# Altium footprint library LaserPCB.PcbLib: 69 footprints (part 2 of 5)
Each footprint in its own frame and in the unit in brackets; x right, y up, seen from the top. Pads: shape width x height; smd on the part's side, far side on the other; paste and mask are expansions set on the pad; w line width, h text height; cw(c..) or ccw(c..) is an arc to the next point about the centre after c.
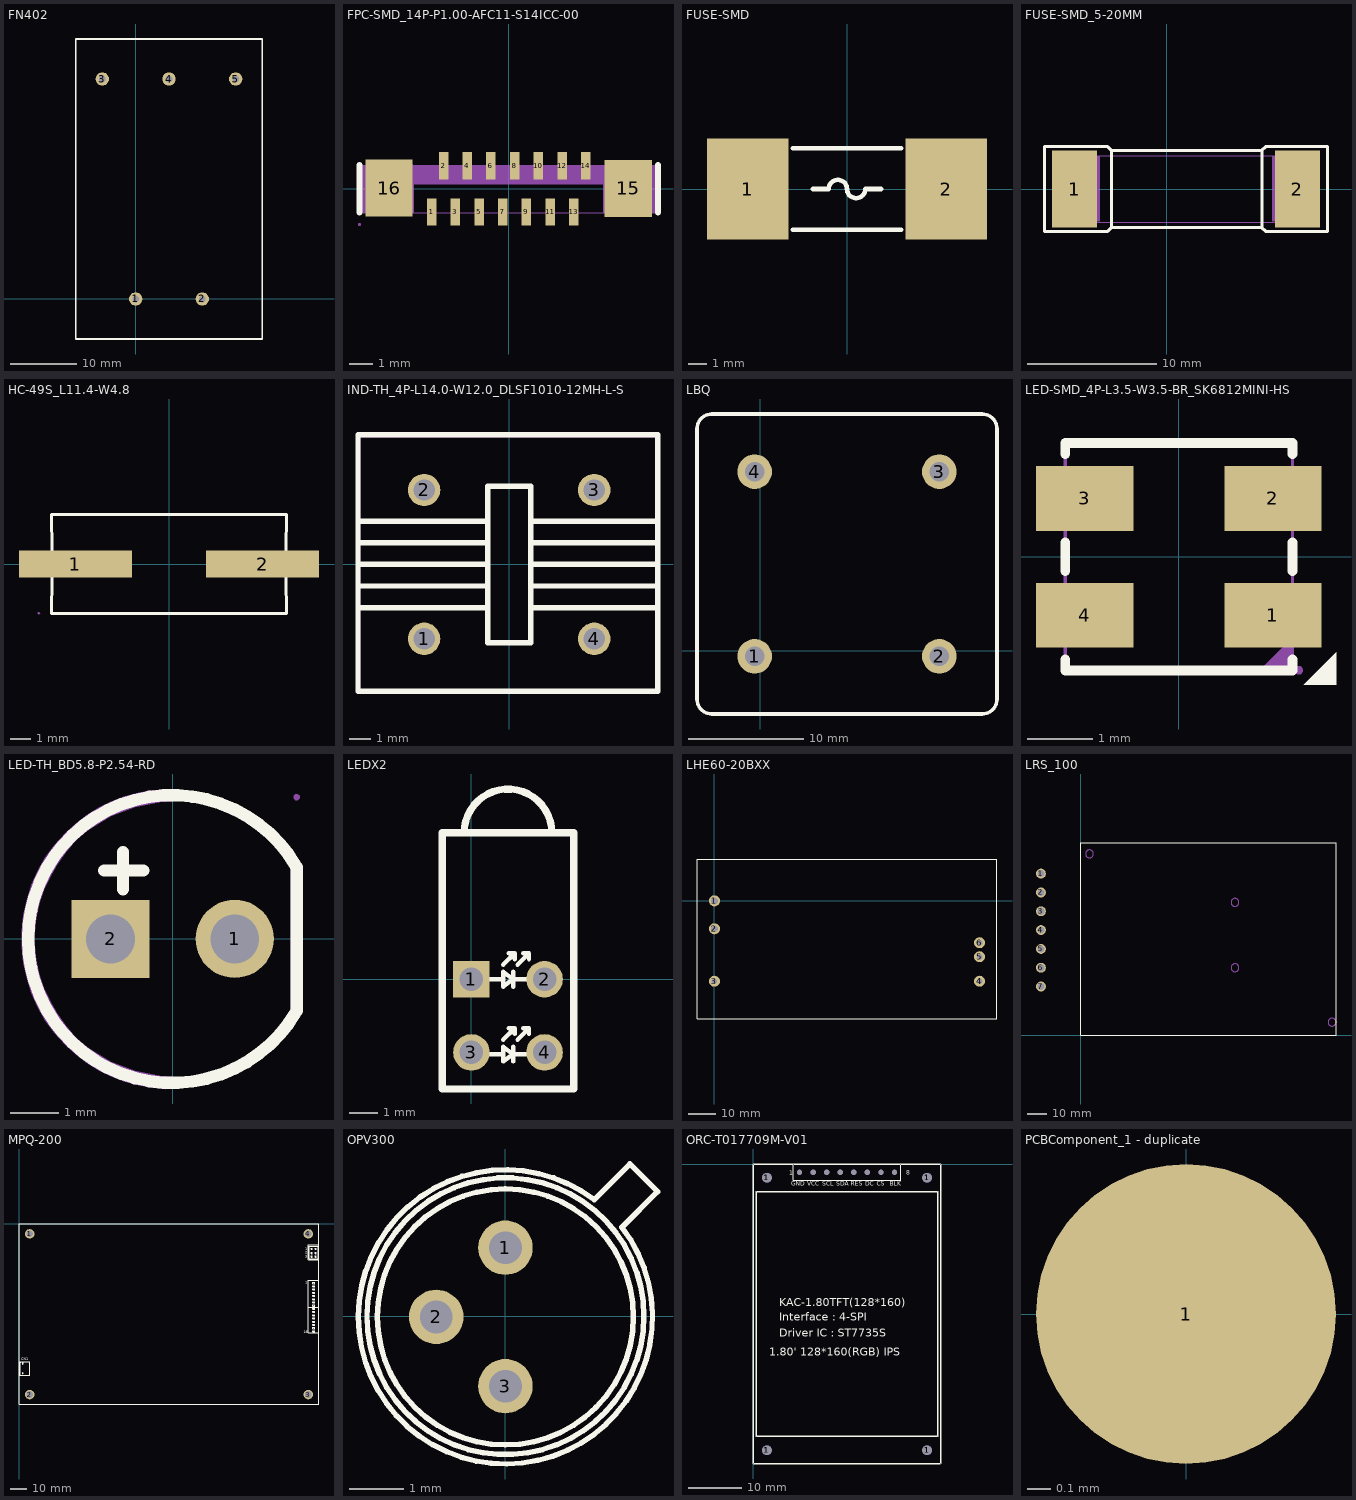
[diagram p1: the footprints below, top view; thin cyan lines are the x and y axes]

## FN402 [mm]
pads (5):
  round 2 hole 1: 1(0,0) 2(10,0) 3(-5,33) 4(5,33) 5(15,33)
Top Overlay:
  lines w0.254: -9,-6 -9,39 19,39 19,-6 -9,-6

## FPC-SMD_14P-P1.00-AFC11-S14ICC-00 [mm]
pads (16):
  rect 0.4x1.15 smd: 1(-3.25,-0.975) 2(-2.75,0.975) 3(-2.25,-0.975) 4(-1.75,0.975) 5(-1.25,-0.975) 6(-0.75,0.975) 7(-0.25,-0.975) 8(0.25,0.975) 9(0.75,-0.975) 10(1.25,0.975) 11(1.75,-0.975) 12(2.25,0.975) 13(2.75,-0.975) 14(3.25,0.975)
  rect 2x2.4 smd: 15(5.05,0.02) 16(-5.05,0.03)
Top Overlay:
  lines w0.254: -6.3,-1 -6.3,1 ; 6.3,-1 6.3,1
Mechanical 6:
  region: 6.3,-1 6.3,1 -6.3,1 -6.3,-1 -4,-1 -4,0.2 4,0.2 4,-1
Mechanical 15:
  region: -6.24,-1.501 -6.24,-1.476 -6.275,-1.441 -6.325,-1.441 -6.36,-1.476 -6.36,-1.501 -6.36,-1.525 -6.325,-1.561 -6.275,-1.561 -6.24,-1.525
  region: 3.15,1.475 3.35,1.475 3.35,0.475 3.15,0.475
  region: 2.65,-0.475 2.85,-0.475 2.85,-1.475 2.65,-1.475
  region: 2.15,1.475 2.35,1.475 2.35,0.475 2.15,0.475
  region: 1.65,-0.501 1.85,-0.501 1.85,-1.501 1.65,-1.501
  region: 1.15,1.475 1.35,1.475 1.35,0.475 1.15,0.475
  region: 0.65,-0.475 0.85,-0.475 0.85,-1.475 0.65,-1.475
  region: 0.15,1.475 0.35,1.475 0.35,0.475 0.15,0.475
  region: -0.35,-0.475 -0.15,-0.475 -0.15,-1.475 -0.35,-1.475
  region: -0.85,1.475 -0.65,1.475 -0.65,0.475 -0.85,0.475
  region: -1.35,-0.475 -1.15,-0.475 -1.15,-1.475 -1.35,-1.475
  region: -1.85,1.475 -1.65,1.475 -1.65,0.475 -1.85,0.475
  region: -2.35,-0.475 -2.15,-0.475 -2.15,-1.475 -2.35,-1.475
  region: -2.85,1.475 -2.65,1.475 -2.65,0.475 -2.85,0.475
  region: -3.35,-0.475 -3.15,-0.475 -3.15,-1.475 -3.35,-1.475
  region: 5.65,1.02 5.65,-0.98 4.05,-0.98 4.05,1.02
  region: -4.05,1.03 -4.05,-0.97 -5.65,-0.97 -5.65,1.03
  lines w0.051: -6.3,-1 -6.3,1 6.3,1 6.3,-1 -6.3,-1

## FUSE-SMD [mm]
pads (2):
  rect 4.5x5.6 smd: 1(-5.5,0) 2(5.5,0)
Top Overlay:
  lines w0.254: -3,-2.25 3,-2.25 ; -3,2.25 3,2.25 ; -1.905,0 -1.016,0 cw(c-0.508,0) 0,0 ccw(c0.508,0) 1.016,0 1.905,0

## FUSE-SMD_5-20MM [mm]
pads (2):
  rect 3.5x6 smd: 1(-7.16,0) 2(10.16,0)
Top Overlay:
  lines w0.254: -4.3,-3 -4.3,3 ; -4.3,-3 -4.6,-3.3 -9.5,-3.3 -9.5,3.3 -9.4,3.3 -4.6,3.3 -4.3,3 ; -4.3,-3 7.4,-3 ; -4.3,3 7.4,3 ; 7.4,-3 7.4,3 ; 7.4,-3 7.7,-3.3 12.5,-3.3 12.5,3.3 7.7,3.3 7.4,3
Mechanical 15:
  region: 8.2,2.499 10,2.499 10,-2.501 8.2,-2.501
  region: -7.001,2.5 -5.201,2.5 -5.201,-2.5 -7.001,-2.5
  region: -6.671,-2.599 -6.672,-2.574 -6.707,-2.54 -6.755,-2.54 -6.79,-2.574 -6.791,-2.599 -6.79,-2.623 -6.755,-2.657 -6.707,-2.657 -6.672,-2.623
  lines w0.051: -7,-2.6 10,-2.6 10,2.6 -7,2.6 -7,-2.6

## HC-49S_L11.4-W4.8 [mm]
pads (2):
  rect 5.5x1.3 smd: 1(-4.553,0) 2(4.553,0)
Top Overlay:
  lines w0.152: -5.715,-2.413 5.715,-2.413 ; -5.715,-2.413 -5.7,-0.662 -5.715,-2.413 ; -5.715,-2.413 5.715,-2.413 ; -5.715,2.413 -5.7,0.662 -5.715,2.413 ; -5.715,2.413 5.715,2.413 ; -5.715,2.413 5.715,2.413 ; 5.715,-2.413 5.7,-0.662 5.715,-2.413 ; 5.715,2.413 5.7,0.662 5.715,2.413
Mechanical 15:
  region: 6.34,-0.4 1.84,-0.4 1.84,0.4 6.34,0.4
  region: -1.84,-0.4 -6.34,-0.4 -6.34,0.4 -1.84,0.4
  region: -6.28,-2.4 -6.281,-2.376 -6.316,-2.342 -6.364,-2.342 -6.399,-2.376 -6.4,-2.4 -6.399,-2.424 -6.364,-2.458 -6.316,-2.458 -6.281,-2.424
  lines w0.051: -5.7,-2.4 -5.7,2.4 5.7,2.4 5.7,-2.4 -5.7,-2.4

## IND-TH_4P-L14.0-W12.0_DLSF1010-12MH-L-S [mm]
pads (4):
  round 1.524 hole 1 paste-2539.97 mask+0.05: 1(-4,-3.5) 2(-4,3.5) 3(4,3.5) 4(4,-3.5)
Top Overlay:
  lines w0.254: -7.112,0 -1.016,0 ; -6.985,-2.032 -1.016,-2.032 ; -6.985,-1.016 -1.016,-1.016 ; -6.985,1.016 -1.016,1.016 ; -6.985,2.032 -1.016,2.032 ; 1.016,-2.032 6.985,-2.032 ; 1.016,-1.016 6.985,-1.016 ; 1.016,0 6.731,0 6.985,0 ; 1.016,1.016 6.858,1.016 ; 1.016,2.032 6.985,2.032 ; -7.112,-5.969 6.985,-5.969 6.985,6.096 -7.112,6.096 -7.112,-5.969 ; -1.016,-3.683 1.016,-3.683 1.016,3.683 -1.016,3.683 -1.016,-3.683
Mechanical 15:
  region: -6.94,-6 -6.941,-5.976 -6.976,-5.941 -7.024,-5.941 -7.059,-5.976 -7.06,-6 -7.059,-6.025 -7.024,-6.059 -6.976,-6.059 -6.941,-6.025
  region: 4.3,-3.5 4.3,-3.44 4.254,-3.33 4.17,-3.245 4.06,-3.2 3.94,-3.2 3.83,-3.246 3.745,-3.33 3.7,-3.44 3.7,-3.5 3.7,-3.56 3.745,-3.67 3.83,-3.754 3.94,-3.8 4.06,-3.8 4.17,-3.754 4.254,-3.67 4.3,-3.56
  region: -3.7,-3.5 -3.7,-3.44 -3.746,-3.33 -3.83,-3.245 -3.94,-3.2 -4.06,-3.2 -4.17,-3.246 -4.255,-3.33 -4.3,-3.44 -4.3,-3.5 -4.3,-3.56 -4.255,-3.67 -4.17,-3.754 -4.06,-3.8 -3.94,-3.8 -3.83,-3.754 -3.746,-3.67 -3.7,-3.56
  region: 4.3,3.5 4.3,3.56 4.254,3.67 4.17,3.754 4.06,3.8 3.94,3.8 3.83,3.754 3.745,3.67 3.7,3.56 3.7,3.5 3.7,3.44 3.745,3.33 3.83,3.246 3.94,3.2 4.06,3.2 4.17,3.246 4.254,3.33 4.3,3.44
  region: -3.7,3.5 -3.7,3.56 -3.746,3.67 -3.83,3.754 -3.94,3.8 -4.06,3.8 -4.17,3.754 -4.255,3.67 -4.3,3.56 -4.3,3.5 -4.3,3.44 -4.255,3.33 -4.17,3.246 -4.06,3.2 -3.94,3.2 -3.83,3.246 -3.746,3.33 -3.7,3.44
  lines w0.051: -7,-6 -7,6 7,6 7,-6 -7,-6

## LBQ [mm]
pads (4):
  round 3 hole 1.7: 1(-0.5,-0.5) 2(15.5,-0.5) 3(15.5,15.5) 4(-0.5,15.5)
Top Overlay:
  lines w0.305: -5.5,-3.5 -5.5,19 ; -5.5,-2.5 -5.5,-4.23 ccw(c-4.23,-4.23) -4.23,-5.5 -3,-5.5 ; -5.5,18.5 -5.5,19.23 cw(c-4.23,19.23) -4.23,20.5 -3.5,20.5 ; -4,-5.5 -2.5,-5.5 ; -4,20.5 19.23,20.5 ; -3.5,-5.5 18.5,-5.5 19.23,-5.5 ccw(c19.23,-4.23) 20.5,-4.23 20.5,-3.5 20.5,19.23 ; 19,20.5 19.23,20.5 ; 20.5,18.5 20.5,19.23 ; 19.23,20.5 cw(c19.23,19.23) 20.5,19.23

## LED-SMD_4P-L3.5-W3.5-BR_SK6812MINI-HS [mm]
pads (4):
  rect 1.5x1 smd: 1(1.45,-0.9) 2(1.45,0.9) 3(-1.45,0.9) 4(-1.45,-0.9)
Top Overlay:
  region: 1.922,-1.972 2.422,-1.972 2.422,-1.472
  lines w0.152: -1.75,-1.58 -1.75,-1.75 1.75,-1.75 1.75,-1.58 ; -1.75,-0.22 -1.75,0.22 ; -1.75,1.58 -1.75,1.75 1.75,1.75 1.75,1.58 ; 1.75,-0.22 1.75,0.22
Mechanical 6:
  drawing of 21 lines, arcs and shapes, not listed
Mechanical 15:
  region: 1.85,-1.3 0.95,-1.3 0.95,-0.5 1.85,-0.5
  region: 1.85,0.5 0.95,0.5 0.95,1.3 1.85,1.3
  region: -0.95,-1.3 -1.85,-1.3 -1.85,-0.5 -0.95,-0.5
  region: -0.95,0.5 -1.85,0.5 -1.85,1.3 -0.95,1.3
  region: 1.91,-1.75 1.91,-1.775 1.875,-1.81 1.825,-1.81 1.79,-1.775 1.79,-1.75 1.79,-1.725 1.825,-1.69 1.875,-1.69 1.91,-1.725
  lines w0.051: -1.75,-1.75 1.75,-1.75 1.75,1.75 -1.75,1.75 -1.75,-1.75

## LED-TH_BD5.8-P2.54-RD [mm]
pads (2):
  round 1.6 hole 1: 1(1.27,0)
  rect 1.6x1.6 hole 1: 2(-1.27,0)
Top Overlay:
  lines w0.254: -1.4,1.4 -0.6,1.4 ; -1.016,1.016 -1.016,1.778 ; 2.54,-1.471 cw(c-0.013,-0.003) 2.54,1.465 2.54,-1.47
Mechanical 6:
  region: 0,-2.82 -0.262,-2.803 -0.777,-2.702 -1.266,-2.512 -1.715,-2.239 -1.92,-2.075 -2.022,-1.972 -2.21,-1.751 -2.376,-1.513 -2.518,-1.261 -2.636,-0.996 -2.727,-0.72 -2.791,-0.437 -2.827,-0.15 -2.835,-0.005 -3.085,-0.005 -3.087,-0.165 -3.056,-0.484 -2.991,-0.797 -2.893,-1.102 -2.763,-1.395 -2.603,-1.673 -2.415,-1.931 -2.2,-2.169 -2.08,-2.275 -1.975,-2.372 -1.748,-2.545 -1.505,-2.695 -1.25,-2.822 -0.983,-2.924 -0.708,-3 -0.427,-3.049 -0.143,-3.072 0,-3.07
  region: 0,2.815 -0.262,2.798 -0.777,2.697 -1.266,2.507 -1.715,2.235 -1.92,2.07 -2.022,1.967 -2.21,1.746 -2.376,1.508 -2.518,1.256 -2.636,0.991 -2.727,0.715 -2.791,0.432 -2.827,0.145 -2.835,0 -3.085,0 -3.087,0.16 -3.056,0.479 -2.991,0.792 -2.893,1.097 -2.763,1.39 -2.603,1.668 -2.415,1.926 -2.2,2.164 -2.08,2.27 -1.975,2.367 -1.748,2.54 -1.505,2.69 -1.25,2.817 -0.983,2.919 -0.708,2.995 -0.427,3.044 -0.143,3.067 0,3.065
  region: 2.415,1.455 2.415,-1.43 2.415,-1.435 2.665,-1.435 2.665,1.455
  region: -0.9,1 -0.95,0.95 -1.05,0.95 -1.1,1 -1.1,1.8 -1.05,1.85 -0.95,1.85 -0.9,1.8
  region: -1.4,1.3 -1.45,1.35 -1.45,1.45 -1.4,1.5 -0.6,1.5 -0.55,1.45 -0.55,1.35 -0.6,1.3
Mechanical 15:
  region: -1.52,0.25 -1.02,0.25 -1.02,-0.25 -1.52,-0.25
  region: 1.02,0.25 1.52,0.25 1.52,-0.25 1.02,-0.25
  region: 2.598,2.9 2.598,2.875 2.563,2.84 2.513,2.84 2.478,2.875 2.478,2.9 2.478,2.925 2.513,2.96 2.563,2.96 2.598,2.925
  lines w0.051: 2.538,-1.466 cw(c0.036,0) 2.538,1.466 2.538,-1.466

## LEDX2 [mil]
pads (4):
  rect 50x50 hole 32: 1(0,0)
  round 50 hole 32: 2(100,0) 3(0,-100) 4(100,-100)
Top Overlay:
  lines w6: 0,-102.36 43.31,-102.36 ; 0,0 43.31,0 ; 43.31,-82.68 59.06,-66.93 ; 43.31,19.68 59.06,35.43 ; 51.18,-66.93 59.06,-66.93 ; 51.18,35.43 59.06,35.43 ; 57,-112.36 57,-92.36 ; 57,-10 57,10 ; 59.06,-74.8 59.06,-66.93 ; 59.06,27.56 59.06,35.43 ; 62.99,-82.68 78.74,-66.93 ; 62.99,19.68 78.74,35.43 ; 70.87,-66.93 78.74,-66.93 ; 70.87,35.43 78.74,35.43 ; 78.74,-74.8 78.74,-66.93 ; 78.74,27.56 78.74,35.43 ; 100,-102.36 57,-102.36 ; 100,0 57,0 ; 57,-102.36 43.31,-112.36 43.31,-92.36 57,-102.36 ; 57,0 43.31,-10 43.31,10 57,0
  lines w10: -10,200 cw(c50,200) 110,200 ; -40,-150 140,-150 140,200 -40,200 -40,-150

## LHE60-20BXX [mm]
pads (6):
  round 4 hole 2.5: 1(0,0) 2(0,-10.16)
  round 4 hole 2: 3(0,-29.21) 4(96.32,-29.21) 5(96.32,-20.31) 6(96.32,-15.23)
Top Overlay:
  lines w0.254: -6.34,-42.9 102.66,-42.9 102.66,15.16 -6.34,15.16 -6.34,-42.9

## LRS_100 [mm]
pads (7):
  round 5 hole 3.6: 1(-20,81.5) 2(-20,72) 3(-20,62.5) 4(-20,53) 5(-20,43.5) 6(-20,34) 7(-20,24.5)
Top Overlay:
  lines w0.254: 0,0 0,97 129,97 129,0 0,0
Mechanical 1:
  circle w0.254: c78,67 r2
  circle w0.254: c78,34 r2
  circle w0.254: c127,6.5 r2
  circle w0.254: c4.5,91.5 r2

## MPQ-200 [mm]
pads (4):
  round 5.6 hole 4: 1(6.35,-6.1) 2(6.35,-101.35) 3(171.45,-101.35) 4(171.45,-6.1)
Top Overlay:
  lines w0.1: 171.577,-49.53 177.8,-49.53 ; 177.8,-107.2 0,-107.2 0,0 177.8,0 177.8,-107.188 ; 177.8,-64.77 171.577,-64.77 171.577,-33.655 177.8,-33.655 ; 177.8,-21.59 171.45,-21.59 171.45,-12.7 177.8,-12.7 ; 0,-90.043 6.35,-90.043 6.35,-81.788 0,-81.788 0.635,-82.423 0.635,-89.408 0,-90.043 ; 172.085,-20.955 172.085,-13.335 177.165,-13.335 177.292,-13.462 177.292,-20.955 172.085,-20.955 ; 173.101,-19.939 173.863,-19.939 173.863,-19.177 173.101,-19.177 173.101,-19.939 ; 173.101,-17.78 173.863,-17.78 173.863,-17.018 173.101,-17.018 173.101,-17.78 ; 173.101,-15.367 173.101,-14.605 173.863,-14.605 173.863,-15.367 173.101,-15.367 ; 173.99,-64.135 175.26,-64.135 175.26,-63.5 173.99,-63.5 173.99,-64.135 ; 173.99,-62.23 175.26,-62.23 175.26,-61.595 173.99,-61.595 173.99,-62.23 ; 173.99,-60.325 175.26,-60.325 175.26,-59.69 173.99,-59.69 173.99,-60.325 ; 173.99,-58.42 175.26,-58.42 175.26,-57.785 173.99,-57.785 173.99,-58.42 ; 173.99,-56.515 175.26,-56.515 175.26,-55.88 173.99,-55.88 173.99,-56.515 ; 173.99,-54.61 175.26,-54.61 175.26,-53.975 173.99,-53.975 173.99,-54.61 ; 173.99,-52.705 175.26,-52.705 175.26,-52.07 173.99,-52.07 173.99,-52.705 ; 173.99,-50.8 175.26,-50.8 175.26,-50.165 173.99,-50.165 173.99,-50.8 ; 173.99,-48.895 175.26,-48.895 175.26,-48.26 173.99,-48.26 173.99,-48.895 ; 173.99,-46.99 175.26,-46.99 175.26,-46.355 173.99,-46.355 173.99,-46.99 ; 173.99,-45.085 175.26,-45.085 175.26,-44.45 173.99,-44.45 173.99,-45.085 ; 173.99,-43.18 175.26,-43.18 175.26,-42.545 173.99,-42.545 173.99,-43.18 ; 173.99,-41.275 175.26,-41.275 175.26,-40.64 173.99,-40.64 173.99,-41.275 ; 173.99,-39.37 175.26,-39.37 175.26,-38.735 173.99,-38.735 173.99,-39.37 ; 173.99,-37.465 175.26,-37.465 175.26,-36.83 173.99,-36.83 173.99,-37.465 ; 173.99,-35.56 173.99,-34.925 175.26,-34.925 175.26,-35.56 173.99,-35.56 ; 175.514,-19.939 175.514,-19.177 176.276,-19.177 176.276,-19.939 175.514,-19.939 ; 175.514,-17.78 175.514,-17.018 176.276,-17.018 176.276,-17.78 175.514,-17.78 ; 175.514,-15.367 176.276,-15.367 176.276,-14.605 175.514,-14.605 175.514,-15.367
  lines w1: 2.159,-89.027 2.159,-88.519 ; 2.159,-83.185 2.159,-82.55
  text "CN1" at 1.27,-81.153 h1.52
  text "1" at 169.799,-15.748 h1.52
  text "2" at 169.545,-18.034 h1.52
  text "3" at 169.545,-20.32 h1.52
  text "1" at 169.545,-35.687 h1.52
  text "16" at 168.91,-65.024 h1.52

## OPV300 [mm]
pads (3):
  round 1 hole 0.6: 1(0,1.257) 2(-1.27,-0.013) 3(0,-1.283)
Top Overlay:
  circle w0.1: c0,0 r2.541
  circle w0.1: c0,-0.013 r2.35
  lines w0.1: 1.634,2.136 ccw(c0,-0.013) 2.139,1.635
  lines w0.102: 1.651,2.159 2.286,2.794 2.54,2.54 2.794,2.286 2.159,1.651

## ORC-T017709M-V01 [mm]
pads (60):
  round 0.127 on Mech1 hole 0.127: 1(0,-56) 1(0,-56) 1(0,0) 1(0,0) 1(0.5,-50.915) 1(0.5,-50.915) 1(0.5,-5.085) 1(0.5,-5.085) 1(34.5,-50.915) 1(34.5,-50.915) 1(34.5,-5.085) 1(34.5,-5.085) 1(34.975,-56) 1(35,-56) 1(35,0) 1(35,0)
  round 1.852 on Mech1 hole 1.852: 1(2.5,-53.5) 1(2.5,-53.5) 1(2.5,-2.5) 1(2.5,-2.5) 1(32.5,-53.5) 1(32.5,-53.5) 1(32.5,-2.5) 1(32.5,-2.5)
  round 1.75 on Mech1 hole 1.75: 1(2.5,-53.5) 1(2.5,-2.5) 1(32.5,-53.5) 1(32.5,-2.5)
  round 0.064 on Top Overlay: 1(7.485,-3) 1(7.485,-3) 1(27.525,-3) 1(27.525,-3)
  round 0.064 on Mech1 hole 0.064: 1(7.485,0) 1(7.485,0) 1(27.525,0) 1(27.525,0)
  round 1.002 on Mech1 hole 1.002: 1(8.615,-1.5) 1(8.615,-1.5) 1(11.155,-1.5) 1(11.155,-1.5) 1(13.695,-1.5) 1(13.695,-1.5) 1(16.235,-1.5) 1(16.235,-1.5) 1(18.775,-1.5) 1(18.775,-1.5) 1(21.315,-1.5) 1(21.315,-1.5) 1(23.855,-1.5) 1(23.855,-1.5) 1(26.395,-1.5) 1(26.395,-1.5)
  round 0.9 on Mech1 hole 0.9: 1(8.615,-1.5) 1(11.155,-1.5) 1(13.695,-1.5) 1(16.235,-1.5) 1(18.775,-1.5) 1(21.315,-1.5) 1(23.855,-1.5) 1(26.395,-1.5)
Top Overlay:
  lines w0.127: 7.485,0 7.485,-3 27.525,-3 27.525,0
  lines w0.254: 34.975,-56 0,-56 0,0 35,0 35,-56 ; 0.5,-50.915 34.5,-50.915 34.5,-5.085 0.5,-5.085 0.5,-50.915
  text "Driver IC : ST7735S" at 4.832,-32.217 h1.5
  text "KAC-1.80TFT(128*160)" at 4.782,-26.542 h1.5
  text "Interface : 4-SPI" at 4.807,-29.217 h1.5
  text "1" at 6.725,-2 h0.8
  text "BLK" at 25.5,-4 h0.8
  text "CS" at 23.1,-4 h0.8
  text "DC" at 20.875,-4 h0.8
  text "RES" at 18.175,-4 h0.8
  text "SDA" at 15.45,-4 h0.8
  text "SCL" at 12.9,-4 h0.8
  text "VCC" at 10.025,-4 h0.8
  text "GND" at 7.1,-4 h0.8
  text "1.80' 128*160(RGB) IPS" at 2.934,-35.801 h1.5
  text "8" at 28.575,-1.95 h0.8
Mechanical 1:
  lines w0.127: 7.485,0 27.525,0
  lines w0.15: 18.625,-1.5 ccw(c18.7,-1.5) 18.775,-1.5 ccw(c18.7,-1.5) 18.625,-1.5 ; 18.7,-1.425 ccw(c18.775,-1.425) 18.85,-1.425 ccw(c18.775,-1.425) 18.7,-1.425
  lines w0.3: 18.7,-1.5 18.775,-1.425

## PCBComponent_1 - duplicate [mm]
pads (1):
  round 1.3 smd: 1(0,0)